# EAGLE library part POWERSUPPLYBATBOT_VN808CM-32-E (library Batboard rev 2.2)
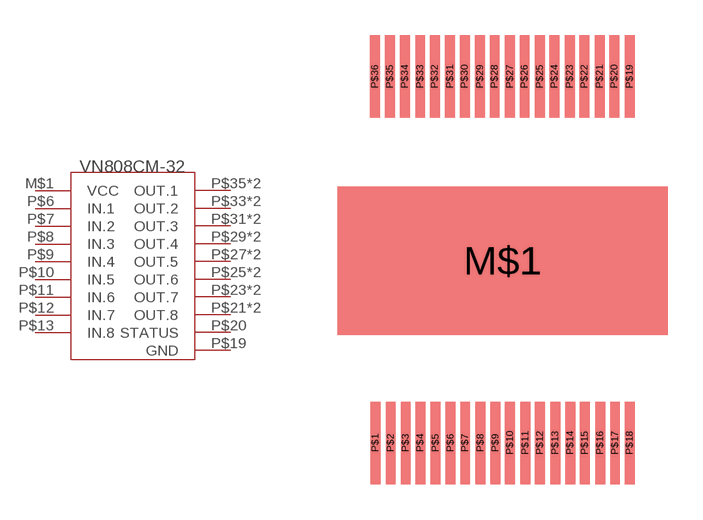
[diagram p6: symbol with the pads of POWERSUPPLYBATBOT_PSO36; footprint POWERSUPPLYBATBOT_PSO36]

Designator prefix -

## POWERSUPPLYBATBOT_VN808CM-32-E  [POWERSUPPLYBATBOT_PSO36]
M$1  VCC
P$6  IN.1
P$7  IN.2
P$8  IN.3
P$9  IN.4
P$10  IN.5
P$11  IN.6
P$12  IN.7
P$13  IN.8
P$19  GND
P$20  STATUS
P$21  OUT.8
P$22  OUT.8
P$23  OUT.7
P$24  OUT.7
P$25  OUT.6
P$26  OUT.6
P$27  OUT.5
P$28  OUT.5
P$29  OUT.4
P$30  OUT.4
P$31  OUT.3
P$32  OUT.3
P$33  OUT.2
P$34  OUT.2
P$35  OUT.1
P$36  OUT.1

## Footprint POWERSUPPLYBATBOT_PSO36 (pad centres in mm)
smd 14 x 6.3: M$1 0.317,0.117
smd 0.42 x 3.5: P$1 -5.08,-7.618; P$2 -4.43,-7.618; P$3 -3.796,-7.618; P$4 -3.176,-7.618; P$5 -2.526,-7.618; P$6 -1.892,-7.618; P$7 -1.272,-7.618; P$8 -0.622,-7.618; P$9 0.012,-7.618; P$10 0.632,-7.618; P$11 1.282,-7.618; P$12 1.902,-7.618; P$13 2.552,-7.618; P$14 3.186,-7.618; P$15 3.806,-7.618; P$16 4.456,-7.618; P$17 5.09,-7.618; P$18 5.71,-7.618; P$19 5.71,7.931; P$20 5.06,7.931; P$21 4.44,7.931; P$22 3.79,7.931; P$23 3.17,7.931; P$24 2.52,7.931; P$25 1.9,7.931; P$26 1.25,7.931; P$27 0.63,7.931; P$28 -0.02,7.931; P$29 -0.64,7.931; P$30 -1.29,7.931; P$31 -1.91,7.931; P$32 -2.56,7.931; P$33 -3.178,7.931; P$34 -3.828,7.931; P$35 -4.462,7.931; P$36 -5.096,7.931